# Altium footprint library PcbLib1.PcbLib: 29 footprints (part 2 of 2)
Each footprint in its own frame and in the unit in brackets; x right, y up, seen from the top. Pads: shape width x height; smd on the part's side, far side on the other; paste and mask are expansions set on the pad; w line width, h text height; cw(c..) or ccw(c..) is an arc to the next point about the centre after c.
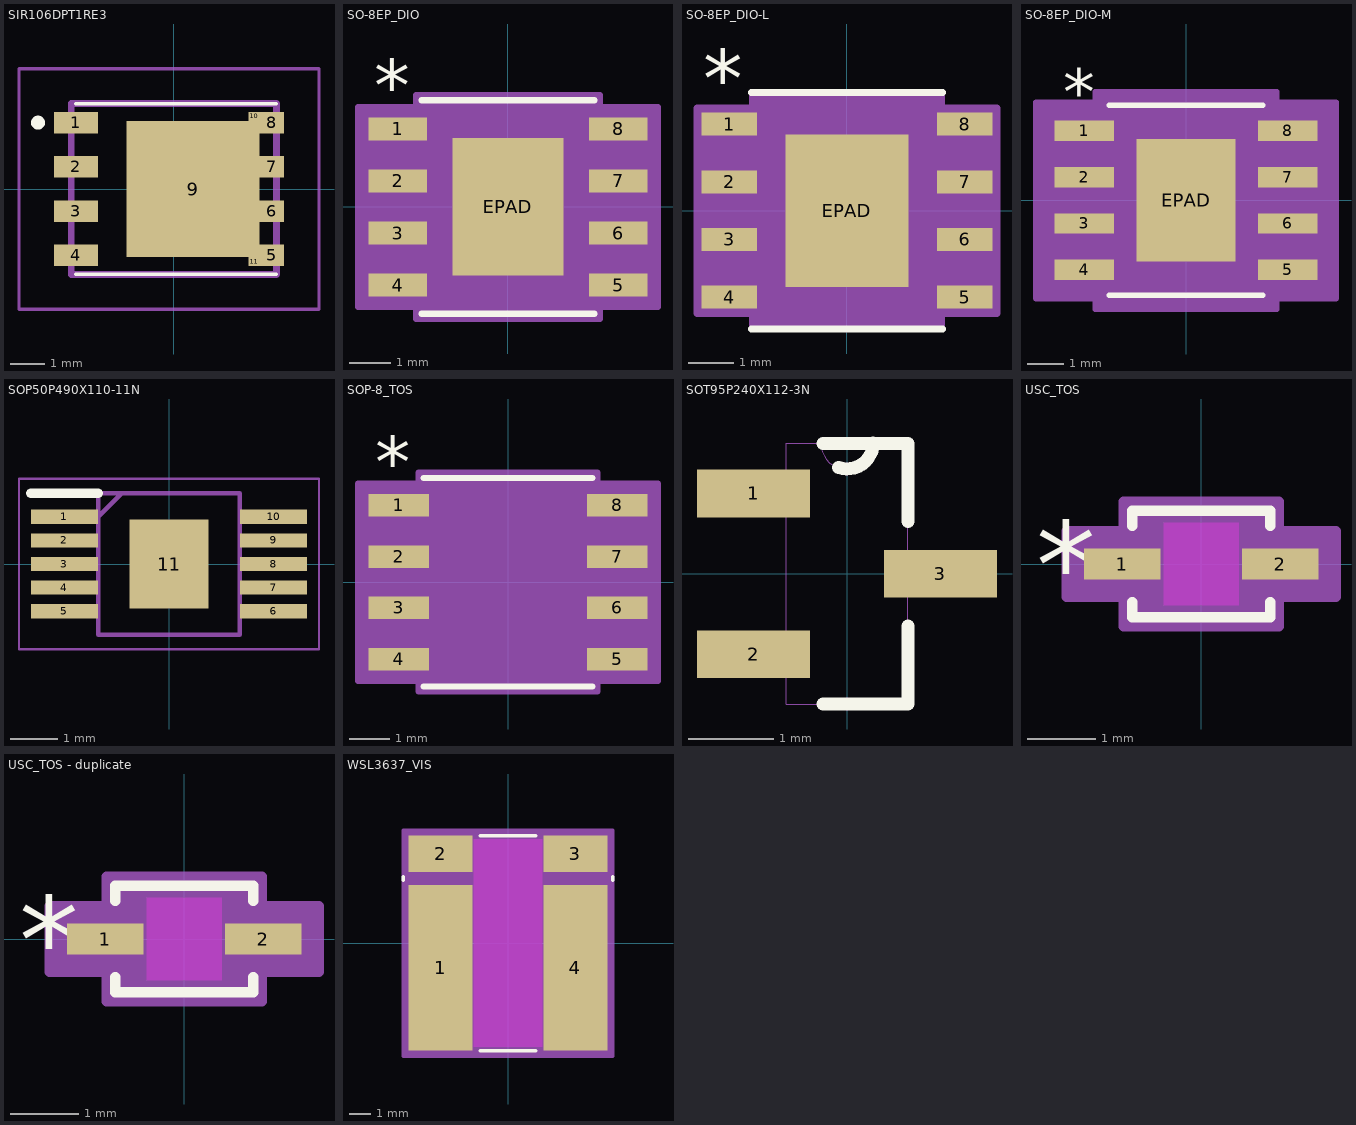
[diagram p1: the footprints below, top view; thin cyan lines are the x and y axes]

## PCBComponent_1 [mm]

## PCBComponent_1 - duplicate [mm]

## PCBComponent_1 - duplicate1 [mm]

## SIR106DPT1RE3 [mm]
pads (11):
  rect 1.27x0.61 smd: 1(-2.81,1.905) 2(-2.81,0.635) 3(-2.81,-0.635) 4(-2.81,-1.905)
  rect 0.71x0.61 smd: 5(2.81,-1.905) 6(2.81,-0.635) 7(2.81,0.635) 8(2.81,1.905)
  rect 3.81x3.91 smd: 9(0.55,0)
  rect 0.31x0.255 smd: 10(2.3,2.083) 11(2.3,-2.083)
Top Overlay:
  lines w0.1: -2.81,-2.45 2.945,-2.45 ; -2.81,2.45 2.945,2.45
  lines w0.2: -4,1.905 ccw(c-3.9,1.905) -3.8,1.905 ccw(c-3.9,1.905) -4,1.905
Mechanical 13:
  lines w0.2: -2.945,-2.45 -2.945,2.45 2.945,2.45 2.945,-2.45 -2.945,-2.45
Mechanical 15:
  lines w0.1: -4.445,-3.45 -4.445,3.45 4.165,3.45 4.165,-3.45 -4.445,-3.45
3D body "SIR870BDP-T1-RE3.stp": height 1.09, standoff 0, extent -3.215,-2.575 2.935,2.575

## SO-8EP_DIO [mil]
pads (9):
  rect 56x22 smd paste+0 mask+0: 1(-106,75) 2(-106,25) 3(-106,-25) 4(-106,-75) 5(106,-75) 6(106,-25) 7(106,25) 8(106,75)
  rect 107x132 smd paste-65.5 mask+0: EPAD(0,0)
Top Overlay:
  lines w6: -83,-102.5 83,-102.5 ; -83,102.5 83,102.5
  text "*" at -128.5,92 h50
Top Paste:
  region: -3.94,62.06 -49.56,62.06 -49.56,3.94 -3.94,3.94
  region: -3.94,-3.94 -49.56,-3.94 -49.56,-62.06 -3.94,-62.06
  region: 49.56,62.06 3.94,62.06 3.94,3.94 49.56,3.94
  region: 49.56,-3.94 3.94,-3.94 3.94,-62.06 49.56,-62.06
Mechanical 13:
  lines w0: -12,97.5 ccw(c0,97.5) 12,97.5
  lines w1: -120,-85 -120,-65 -78,-65 -78,-85 -120,-85 ; -120,-35 -120,-15 -78,-15 -78,-35 -120,-35 ; -120,15 -120,35 -78,35 -78,15 -120,15 ; -120,65 -120,85 -78,85 -78,65 -120,65 ; -78,-97.5 78,-97.5 78,97.5 -78,97.5 -78,-97.5 ; 78,-85 78,-65 120,-65 120,-85 78,-85 ; 78,-35 78,-15 120,-15 120,-35 78,-35 ; 78,15 78,35 120,35 120,15 78,15 ; 78,65 78,85 120,85 120,65 78,65
  text "*" at -75.5,44.5 h50
Mechanical 15:
  region: -88,-96 -144,-96 -144,96 -88,96 -88,107.5 88,107.5 88,96 144,96 144,-96 88,-96 88,-107.5 -88,-107.5
  lines w6: -144,-96 -144,96 -88,96 -88,107.5 88,107.5 88,96 144,96 144,-96 88,-96 88,-107.5 -88,-107.5 -88,-96 -144,-96
3D body "SO-8EP_DIO.step": height 64.09, standoff -2.01, extent -120,-97.48 120,97.48

## SO-8EP_DIO-L [mil]
pads (9):
  rect 48x20 smd paste+0 mask+0: 1(-102,75) 2(-102,25) 3(-102,-25) 4(-102,-75) 5(102,-75) 6(102,-25) 7(102,25) 8(102,75)
  rect 107x132 smd paste-65.5 mask+0: EPAD(0,0)
Top Overlay:
  lines w6: -83,-102.5 83,-102.5 ; -83,102.5 83,102.5
  text "*" at -124.5,90 h50
Top Paste:
  region: -3.94,62.06 -49.56,62.06 -49.56,3.94 -3.94,3.94
  region: -3.94,-3.94 -49.56,-3.94 -49.56,-62.06 -3.94,-62.06
  region: 49.56,62.06 3.94,62.06 3.94,3.94 49.56,3.94
  region: 49.56,-3.94 3.94,-3.94 3.94,-62.06 49.56,-62.06
Mechanical 13:
  lines w0: -12,97.5 ccw(c0,97.5) 12,97.5
  lines w1: -120,-85 -120,-65 -78,-65 -78,-85 -120,-85 ; -120,-35 -120,-15 -78,-15 -78,-35 -120,-35 ; -120,15 -120,35 -78,35 -78,15 -120,15 ; -120,65 -120,85 -78,85 -78,65 -120,65 ; -78,-97.5 78,-97.5 78,97.5 -78,97.5 -78,-97.5 ; 78,-85 78,-65 120,-65 120,-85 78,-85 ; 78,-35 78,-15 120,-15 120,-35 78,-35 ; 78,15 78,35 120,35 120,15 78,15 ; 78,65 78,85 120,85 120,65 78,65
  text "*" at -75.5,44.5 h50
Mechanical 15:
  region: -82,-89 -130,-89 -130,89 -82,89 -82,101.5 82,101.5 82,89 130,89 130,-89 82,-89 82,-101.5 -82,-101.5
  lines w6: -130,-89 -130,89 -82,89 -82,101.5 82,101.5 82,89 130,89 130,-89 82,-89 82,-101.5 -82,-101.5 -82,-89 -130,-89
3D body "SO-8EP_DIO.step": height 64.09, standoff -2.01, extent -120,-97.48 120,97.48

## SO-8EP_DIO-M [mil]
pads (9):
  rect 64x22 smd paste+0 mask+0: 1(-110,75) 2(-110,25) 3(-110,-25) 4(-110,-75) 5(110,-75) 6(110,-25) 7(110,25) 8(110,75)
  rect 107x132 smd paste-65.5 mask+0: EPAD(0,0)
Top Overlay:
  lines w6: -83,-102.5 83,-102.5 ; -83,102.5 83,102.5
  text "*" at -132.5,92 h50
Top Paste:
  region: -3.94,62.06 -49.56,62.06 -49.56,3.94 -3.94,3.94
  region: -3.94,-3.94 -49.56,-3.94 -49.56,-62.06 -3.94,-62.06
  region: 49.56,62.06 3.94,62.06 3.94,3.94 49.56,3.94
  region: 49.56,-3.94 3.94,-3.94 3.94,-62.06 49.56,-62.06
Mechanical 13:
  lines w0: -12,97.5 ccw(c0,97.5) 12,97.5
  lines w1: -120,-85 -120,-65 -78,-65 -78,-85 -120,-85 ; -120,-35 -120,-15 -78,-15 -78,-35 -120,-35 ; -120,15 -120,35 -78,35 -78,15 -120,15 ; -120,65 -120,85 -78,85 -78,65 -120,65 ; -78,-97.5 78,-97.5 78,97.5 -78,97.5 -78,-97.5 ; 78,-85 78,-65 120,-65 120,-85 78,-85 ; 78,-35 78,-15 120,-15 120,-35 78,-35 ; 78,15 78,35 120,35 120,15 78,15 ; 78,65 78,85 120,85 120,65 78,65
  text "*" at -75.5,44.5 h50
Mechanical 15:
  region: -98,-106 -162,-106 -162,106 -98,106 -98,117.5 98,117.5 98,106 162,106 162,-106 98,-106 98,-117.5 -98,-117.5
  lines w6: -162,-106 -162,106 -98,106 -98,117.5 98,117.5 98,106 162,106 162,-106 98,-106 98,-117.5 -98,-117.5 -98,-106 -162,-106
3D body "SO-8EP_DIO.step": height 64.09, standoff -2.01, extent -120,-97.48 120,97.48

## SOP50P490X110-11N [mm]
pads (11):
  rect 1.425x0.3 smd: 1(-2.212,1) 2(-2.212,0.5) 3(-2.212,0) 4(-2.212,-0.5) 5(-2.212,-1) 6(2.212,-1) 7(2.212,-0.5) 8(2.212,0) 9(2.212,0.5) 10(2.212,1)
  rect 1.68x1.88 smd: 11(0,0)
Top Overlay:
  lines w0.2: -2.925,1.5 -1.5,1.5
Mechanical 15:
  lines w0.1: -1.5,1 -1,1.5 ; -1.5,-1.5 -1.5,1.5 1.5,1.5 1.5,-1.5 -1.5,-1.5
Mechanical 20:
  lines w0.05: -3.175,-1.801 -3.175,1.801 3.175,1.801 3.175,-1.801 -3.175,-1.801

## SOP-8_TOS [mil]
pads (8):
  rect 59x22 smd paste+0 mask+0: 1(-106.5,75) 2(-106.5,25) 3(-106.5,-25) 4(-106.5,-75) 5(106.5,-75) 6(106.5,-25) 7(106.5,25) 8(106.5,75)
Top Overlay:
  lines w6: -82,-101.5 82,-101.5 ; -82,101.5 82,101.5
  text "*" at -129,92 h50
Mechanical 13:
  lines w0: -12,96.5 ccw(c0,96.5) 12,96.5
  lines w1: -122,-85 -122,-65 -77,-65 -77,-85 -122,-85 ; -122,-35 -122,-15 -77,-15 -77,-35 -122,-35 ; -122,15 -122,35 -77,35 -77,15 -122,15 ; -122,65 -122,85 -77,85 -77,65 -122,65 ; -77,-96.5 77,-96.5 77,96.5 -77,96.5 -77,-96.5 ; 77,-85 77,-65 122,-65 122,-85 77,-85 ; 77,-35 77,-15 122,-15 122,-35 77,-35 ; 77,15 77,35 122,35 122,15 77,15 ; 77,65 77,85 122,85 122,65 77,65
  text "*" at -74.5,43.5 h50
Mechanical 15:
  region: -87,-96 -146,-96 -146,96 -87,96 -87,106.5 87,106.5 87,96 146,96 146,-96 87,-96 87,-106.5 -87,-106.5
  lines w6: -146,-96 -146,96 -87,96 -87,106.5 87,106.5 87,96 146,96 146,-96 87,-96 87,-106.5 -87,-106.5 -87,-96 -146,-96
3D body "SOP-8.stp": height 65.75, standoff 0, extent -118.11,-96.46 118.11,96.46

## SOT95P240X112-3N [mil]
pads (3):
  rect 52x22 smd: 1(-43,37) 2(-43,-37) 3(43,0)
Top Overlay:
  lines w6: -11,-60 28,-60 28,-24 ; -11,60 12,60 28,60 28,24 ; -3.9,48.96 ccw(c0.15,60.1) 12,60.1
Mechanical 13:
  lines w0: -28,-47 -28,-60 28,-60 28,-10 ; -28,-47 -28,-28 ; -28,-47 -52,-47 -52,-28 -28,-28 ; -28,-28 -28,28 ; -28,28 -28,47 ; -28,28 -52,28 -52,47 -28,47 ; -28,47 -28,60 -12,60 ; -12,60 ccw(c0,60) 12,60 ; -12,60 12,60 ; 12,60 28,60 28,10 ; 28,-10 28,10 ; 28,-10 52,-10 52,10 28,10

## USC_TOS [mm]
pads (2):
  rect 1.111x0.451 smd paste+0 mask+0: 1(-1.15,0) 2(1.15,0)
Top Overlay:
  lines w0.152: -1.002,-0.558 -1.002,-0.777 1.002,-0.777 1.002,-0.558 ; -1.002,0.558 -1.002,0.777 1.002,0.777 1.002,0.558
  text "*" at -2.404,-0.635 h1.27
Keep-Out Layer:
  region: -0.544,-0.599 -0.544,0.599 0.544,0.599 0.544,-0.599
Mechanical 13:
  lines w0.025: -0.875,-0.325 -0.55,-0.65 ; -0.875,0.325 -0.55,0.65 ; -1.35,-0.2 -0.875,-0.2 -0.875,0.2 -1.35,0.2 -1.35,-0.2 ; -0.875,-0.65 -0.875,0.65 0.875,0.65 0.875,-0.65 -0.875,-0.65 ; 0.875,-0.2 1.35,-0.2 1.35,0.2 0.875,0.2 0.875,-0.2
  text "*" at -0.938,-0.635 h1.27
Mechanical 15:
  region: -1.129,-0.479 -1.96,-0.479 -1.96,0.479 -1.129,0.479 -1.129,0.904 1.129,0.904 1.129,0.479 1.96,0.479 1.96,-0.479 1.129,-0.479 1.129,-0.904 -1.129,-0.904
  lines w0.152: -1.96,-0.479 -1.129,-0.479 -1.129,-0.904 1.129,-0.904 1.129,-0.479 1.96,-0.479 1.96,0.479 1.129,0.479 1.129,0.904 -1.129,0.904 -1.129,0.479 -1.96,0.479 -1.96,-0.479
3D body "USC_TOS.step": height 1.1, standoff 0, extent -1.35,-0.65 1.35,0.65

## USC_TOS - duplicate [mm]
pads (2):
  rect 1.111x0.451 smd paste+0 mask+0: 1(-1.15,0) 2(1.15,0)
Top Overlay:
  lines w0.152: -1.002,-0.558 -1.002,-0.777 1.002,-0.777 1.002,-0.558 ; -1.002,0.558 -1.002,0.777 1.002,0.777 1.002,0.558
  text "*" at -2.404,-0.635 h1.27
Keep-Out Layer:
  region: -0.544,-0.599 -0.544,0.599 0.544,0.599 0.544,-0.599
Mechanical 13:
  lines w0.025: -0.875,-0.325 -0.55,-0.65 ; -0.875,0.325 -0.55,0.65 ; -1.35,-0.2 -1.35,0.2 -0.875,0.2 -0.875,-0.2 -1.35,-0.2 ; -0.875,-0.65 0.875,-0.65 0.875,0.65 -0.875,0.65 -0.875,-0.65 ; 0.875,-0.2 0.875,0.2 1.35,0.2 1.35,-0.2 0.875,-0.2
  text "*" at -0.938,-0.635 h1.27
Mechanical 15:
  region: -1.129,-0.479 -1.96,-0.479 -1.96,0.479 -1.129,0.479 -1.129,0.904 1.129,0.904 1.129,0.479 1.96,0.479 1.96,-0.479 1.129,-0.479 1.129,-0.904 -1.129,-0.904
  lines w0.152: -1.96,-0.479 -1.96,0.479 -1.129,0.479 -1.129,0.904 1.129,0.904 1.129,0.479 1.96,0.479 1.96,-0.479 1.129,-0.479 1.129,-0.904 -1.129,-0.904 -1.129,-0.479 -1.96,-0.479
3D body "USC_TOS.step": height 1.1, standoff 0, extent -1.35,-0.65 1.35,0.65

## WSL3637_VIS [mil]
pads (4):
  rect 116x300 smd paste+0 mask+0: 1(-122,-45) 4(122,-45)
  rect 116x66 smd paste+0 mask+0: 2(-122,162) 3(122,162)
Top Layer keep-out:
  region: -62,-188 -62,188 62,188 62,-188
Top Overlay:
  lines w6: -190,113.46 -190,120.54 ; -50.9,-195 50.9,-195 ; -50.9,195 50.9,195 ; 190,113.46 190,120.54
Mechanical 13:
  lines w1: -185,-190 -185,190 185,190 185,-190 -185,-190
Mechanical 15:
  region: 190,-205 -190,-205 -190,205 190,205
  lines w6: -190,-205 190,-205 190,205 -190,205 -190,-205
3D body "WSL36373L600FEA.stp": height 25, standoff 0, extent -180,-180 180,190